# EAGLE library part H3FA-AU-DC (library HyTechDevices - Copy)
H3FA-*U* Time Delay Relay with Start Datasheet <https://www.mouser.com/datasheet/2/307/h3fa_ds_e_8_2_csm89-2308348.pdf>
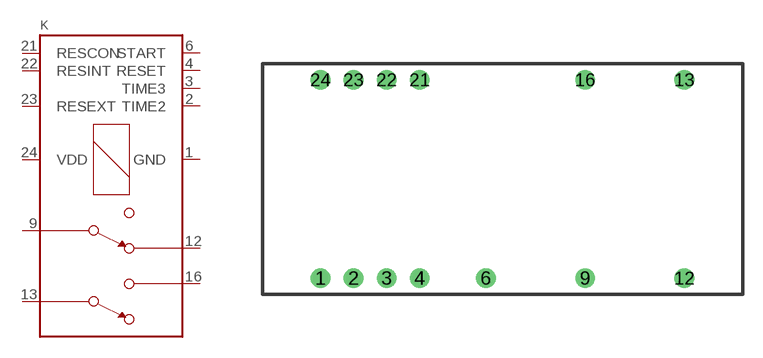
[diagram p27: symbol with the pads of H3FA-U; footprint H3FA-U]

Designator prefix K

## H3FA-AU-DC5 (DKPN: Z3011-ND; MANUFACTURER: Omron Automation and Safety; MOPN: 653-H3FA-AUDC5; MPN: H3FA-AU-DC5)  [H3FA-U]
1  GND  pwr
2  TIME2  in
3  TIME3  in
4  RESET  in
6  START  in
9  NC-1
12  NC-2
13  NO-1
16  NO-2
21  RESCON  pas
22  RESINT  pas
23  RESEXT  pas
24  VDD  pwr

## Footprint H3FA-U (pad centres in mm)
H3FA-*U Timer Relay Datasheet <https://www.mouser.com/datasheet/2/307/-794852.pdf>
drill 1: 1 0,-7.62; 2 2.54,-7.62; 3 5.08,-7.62; 4 7.62,-7.62; 6 12.7,-7.62; 9 20.32,-7.62; 12 27.94,-7.62; 13 27.94,7.62; 16 20.32,7.62; 21 7.62,7.62; 22 5.08,7.62; 23 2.54,7.62; 24 0,7.62